# EAGLE library part ADXL335 (library LibABL)
Acelerómetro de 2 Ejes compatible con Arduino. Hecho por AlbertoBL.
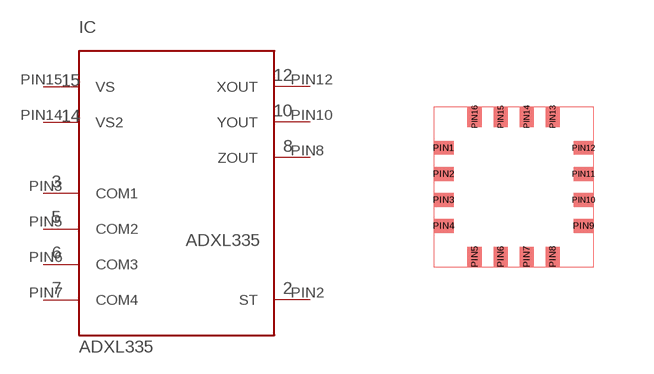
[diagram p0: symbol with the pads of ADXL335; footprint ADXL335]

Designator prefix IC

## ADXL335  [ADXL335]
PIN2  ST  out
PIN3  COM1  in
PIN5  COM2  in
PIN6  COM3  in
PIN7  COM4  in
PIN8  ZOUT  out
PIN10  YOUT  out
PIN12  XOUT  out
PIN14  VS2  in
PIN15  VS  in

## Footprint ADXL335 (pad centres in mm)
smd 0.5 x 0.35: PIN1 0.25,2.975; PIN2 0.25,2.325; PIN3 0.25,1.675; PIN4 0.25,1.025; PIN9 3.75,1.025; PIN10 3.75,1.675; PIN11 3.75,2.325; PIN12 3.75,2.975
smd 0.35 x 0.5: PIN5 1.025,0.25; PIN6 1.675,0.25; PIN7 2.325,0.25; PIN8 2.975,0.25; PIN13 2.975,3.75; PIN14 2.325,3.75; PIN15 1.675,3.75; PIN16 1.025,3.75